# Altium footprint library PCB_Lib.PcbLib: 301 footprints (part 13 of 19)
Each footprint in its own frame and in the unit in brackets; x right, y up, seen from the top. Pads: shape width x height; smd on the part's side, far side on the other; paste and mask are expansions set on the pad; w line width, h text height; cw(c..) or ccw(c..) is an arc to the next point about the centre after c.
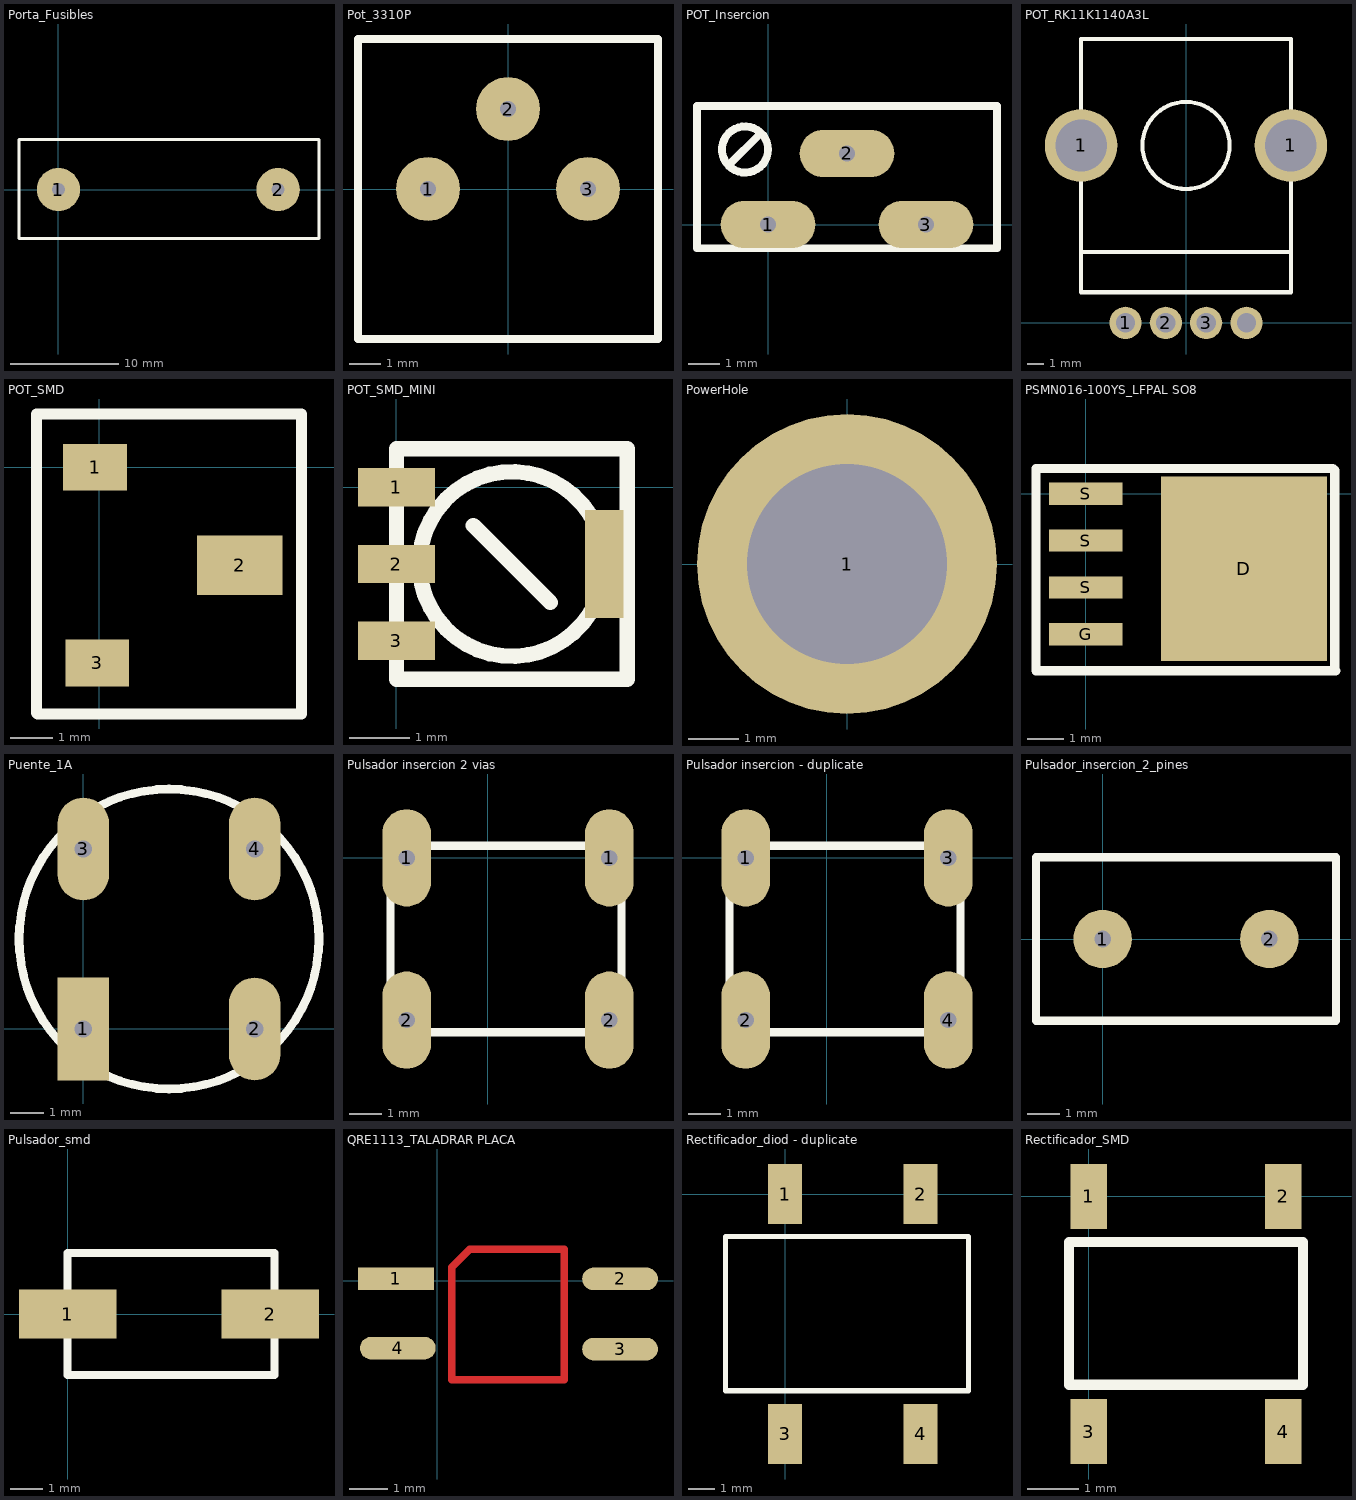
[diagram p12: the footprints below, top view; thin cyan lines are the x and y axes]

## Porta_Fusibles [mm]
pads (2):
  round 4 hole 1.2: 1(0,0) 2(20.32,0)
Top Overlay:
  lines w0.305: -3.65,-4.525 -3.65,4.625 24.1,4.625 24.1,-4.525 -3.65,-4.525

## Pot_3310P [mil] "Resistencia Variable Rectangular"
pads (3):
  round 80 hole 20: 1(-100,0) 2(0,100) 3(100,0)
Top Overlay:
  lines w10: -187.5,-187.5 -187.5,187.5 187.5,187.5 187.5,-187.5 -187.5,-187.5

## POT_Insercion [mil] "Resistencia Variable Rectangular"
pads (3):
  oval 120x60 hole 20: 1(0,0) 2(100,90) 3(200,0)
Top Overlay:
  circle w10: c-29.16,95 r29.16
  lines w10: -50,75 -10,115 ; -90,-30 -90,150 290,150 290,-30 -90,-30

## POT_RK11K1140A3L [mm]
pads (6):
  round 4.5 hole 3.2: 1(-6.5,11) 1(6.5,11)
  round 2 hole 1.2: 1(-3.75,0) 2(-1.25,0) 3(1.25,0) ""(3.75,0)
Top Overlay:
  circle w0.254: c0,11 r2.7
  lines w0.254: -6.5,4.4 6.5,4.4 ; -6.5,1.9 -6.5,17.6 6.5,17.6 6.5,1.9 -6.5,1.9

## POT_SMD [mm]
pads (3):
  rect 1.5x1.1 smd: 1(-0.1,0) 3(-0.05,-4.6)
  rect 2x1.4 smd: 2(3.3,-2.3)
Top Overlay:
  lines w0.254: -1.075,-5.8 4.75,-5.8 4.75,1.25 -1.475,1.25 -1.475,-5.775 -1.45,-5.8 -0.875,-5.8

## POT_SMD_MINI [mil]
pads (4):
  rect 50x25 smd: 1(0,0) 2(0,-50) 3(0,-100)
  rect 25x70 smd: ""(135,-50)
Top Overlay:
  circle w10: c75,-50 r60
  lines w10: 50,-25 100,-75 ; 0,-125 0,25 150,25 150,-125 0,-125

## PowerHole [mm]
pads (1):
  round 6 hole 4: 1(0,0)

## PSMN016-100YS_LFPAL SO8 [mm]
pads (5):
  rect 4.5x5 smd: D(4.293,-2.032)
  rect 2x0.6 smd: G(0,-3.81) S(0,-2.54) S(0,-1.27) S(0,0)
Top Layer:
  lines w0.254: 6.172,-4.039 6.198,-4.064
Top Overlay:
  lines w0.254: -1.346,-4.801 -1.346,0.686 6.706,0.686 6.756,0.635 6.756,-4.775 6.782,-4.801 -1.346,-4.801

## Puente_1A [mil]
height 100
pads (4):
  rect 60x120 hole 20: 1(0,0)
  oval 60x120 hole 20: 2(200,0) 3(0,210) 4(200,210)
Top Overlay:
  circle w10: c100,105 r175

## Pulsador insercion 2 vias [mil]
height 100
pads (4):
  oval 60x120 hole 20: 1(-100,0) 1(150,0) 2(-100,-200) 2(150,-200)
Top Overlay:
  lines w10: -120,-215 -120,15 165,15 165,-215 -120,-215

## Pulsador insercion - duplicate [mil]
height 100
pads (4):
  oval 60x120 hole 20: 1(-100,0) 2(-100,-200) 3(150,0) 4(150,-200)
Top Overlay:
  lines w10: -120,-215 165,-215 165,15 -120,15 -120,-215

## Pulsador_insercion_2_pines [mil]
height 100
pads (2):
  round 70 hole 20: 1(0,0) 2(200,0)
Top Overlay:
  lines w10: -80,-98 -80,98 280,98 280,-98 -80,-98

## Pulsador_smd [mil]
pads (2):
  rect 120x60 smd: 1(0,0) 2(250,0)
Top Overlay:
  lines w10: 0,-75 255,-75 255,75 0,75 0,-75

## QRE1113_TALADRAR PLACA [mil]
pads (4):
  rect 78.74x23.62 smd: 1(-43,2)
  oval 78.74x23.62 smd: 2(190,2) 3(190,-71) 4(-41,-70)
Top Layer:
  lines w7.87: 15,-103 15,14 34,33 132,33 132,-103 15,-103

## Rectificador_diod - duplicate [mm]
pads (4):
  rect 1.3x2.3 smd: 1(0,0) 2(5.2,0) 3(0,-9.2) 4(5.2,-9.2)
Top Overlay:
  lines w0.2: -2.286,-7.544 7.036,-7.544 7.036,-1.626 -2.286,-1.626 -2.286,-7.544

## Rectificador_SMD [mil]
pads (4):
  rect 28x50 smd: 1(0,0) 2(150,0) 3(0,-181) 4(150,-181)
Top Overlay:
  lines w7.87: -15,-145 165,-145 165,-35 -15,-35 -15,-145